# Altium integrated library Renesas Logic.IntLib: 1013 symbols (part 14 of 27)
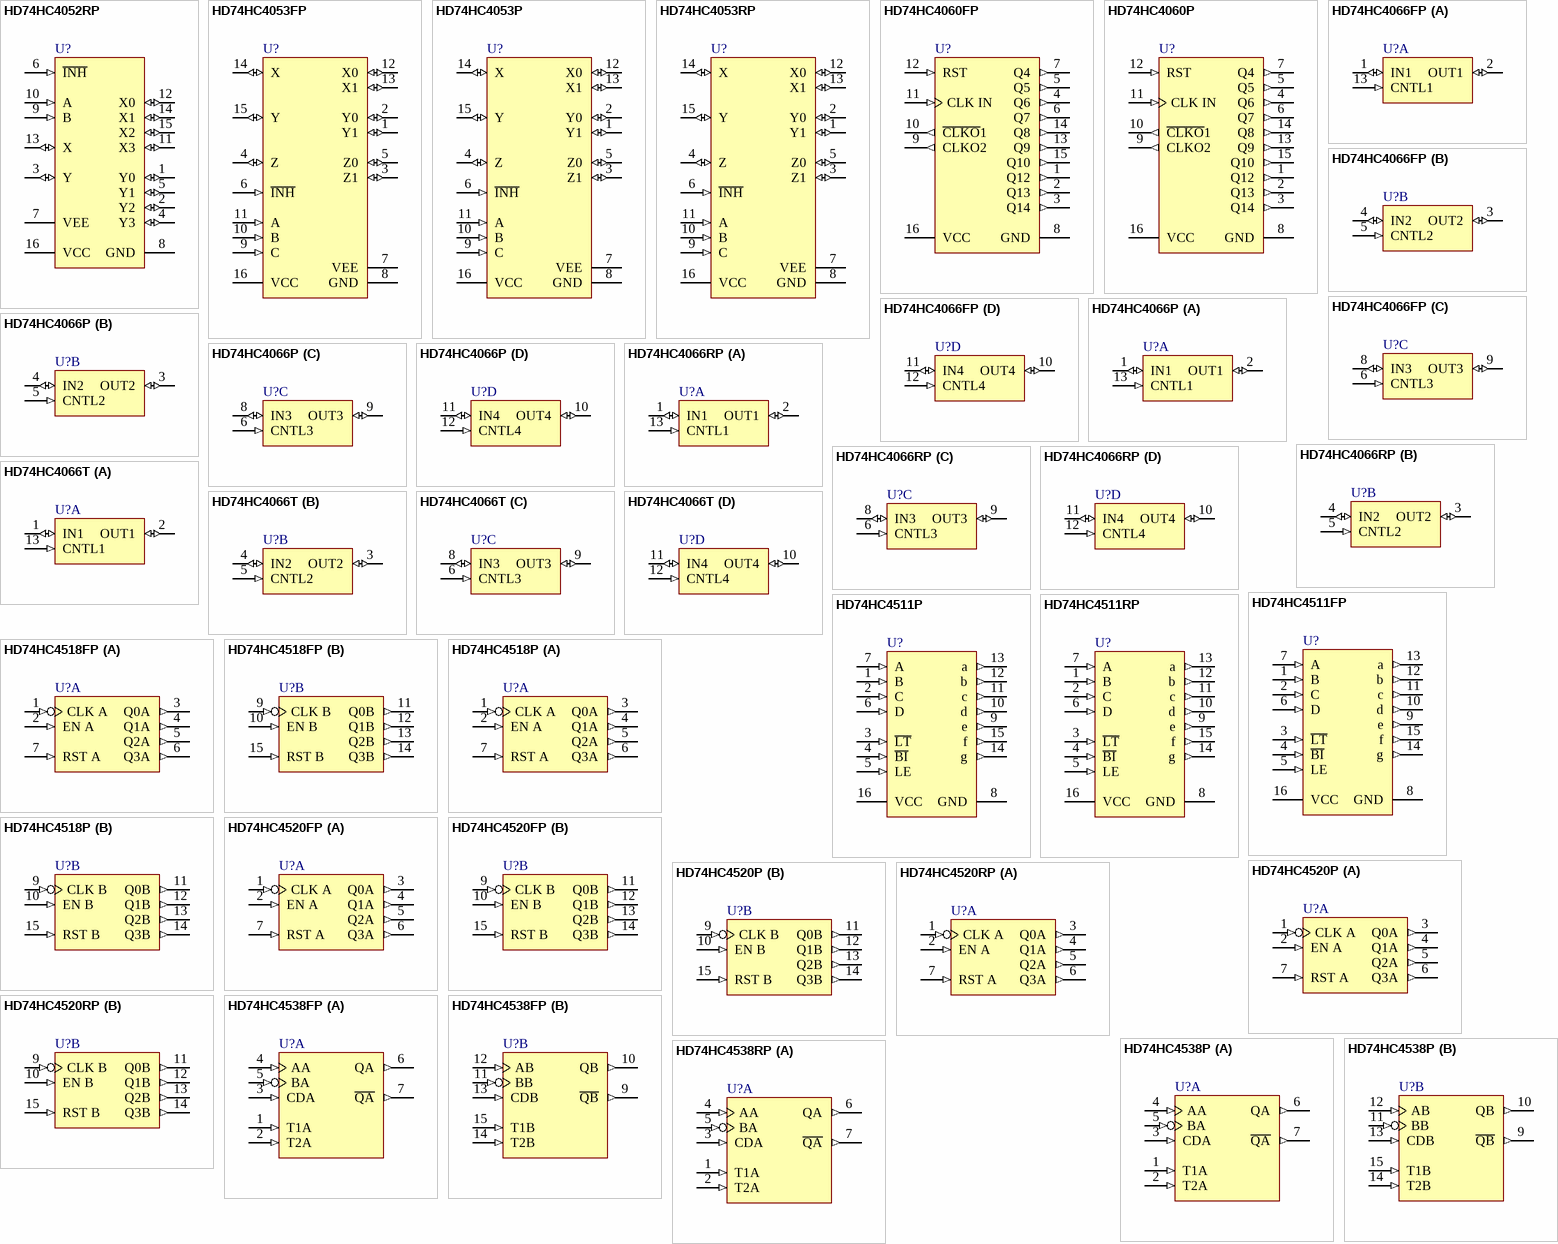
[diagram p66: symbols HD74HC4052RP to HD74HC4538RP]

## HD74HC4518P
designator U?
Dual BCD Up Counters; Published: 10-Feb-2010; DatasheetVersion: Rev.2.00, Mar-2006; PackageVersion: Sep-2005; PackageReference: PRDP0016AE-B; Publisher: Altium Limited; PackageDescription: DIP, Plastic, 16-Pin, Row Spacing 7.62 mm, Pitch 2.54 mm; Code_JEITA: P-DIP16-6.3x19.2-2.54; ComponentLink1Description: Manufacturer Link; ComponentLink1URL: http://sg.renesas.com/fmwk.jsp?cnt=hd74hc_root.jsp&fp=/products/standard_ic/general_purpose_logic/5v_standard_logic/hd74hc/; ComponentLink2Description: Datasheet; ComponentLink2URL: http://documentation.renesas.com/eng/products/logic/rej03d0653_hd74hc4518_4520ds.pdf; ComponentLink3Description: Packaging Specification; ComponentLink3URL: http://sg.renesas.com/media/products/common_info/package/pdf/ic/code/prdp0016ae_b.pdf
footprint PRDP0016AE-B (DIP, 16-Leads, Row Spacing 7.62mm, Pitch 2.54mm, Body 19.2x6.3mm)
pins on every part: 8 GND (power) hidden to GND, 16 VCC (power) hidden to VDD
part A pins: 1 CLK A (in), 2 EN A (in), 3 Q0A (out), 4 Q1A (out), 5 Q2A (out), 6 Q3A (out), 7 RST A (in)
part B pins: 9 CLK B (in), 10 EN B (in), 11 Q0B (out), 12 Q1B (out), 13 Q2B (out), 14 Q3B (out), 15 RST B (in)

## HD74HC4520FP
designator U?
Dual Binary Up Counters; Published: 10-Feb-2010; DatasheetVersion: Rev.2.00, Mar-2006; PackageVersion: Sep-2005; PackageReference: PRSP0016DH-B; Publisher: Altium Limited; PackageDescription: 16-Pin Plastic Small Outline Package 1.27 mm Pitch; Code_JEITA: P-SOP16-5.5x10.06-1.27; ComponentLink1Description: Manufacturer Link; ComponentLink1URL: http://sg.renesas.com/fmwk.jsp?cnt=hd74hc_root.jsp&fp=/products/standard_ic/general_purpose_logic/5v_standard_logic/hd74hc/; ComponentLink2Description: Datasheet; ComponentLink2URL: http://documentation.renesas.com/eng/products/logic/rej03d0653_hd74hc4518_4520ds.pdf; ComponentLink3Description: Packaging Specification; ComponentLink3URL: http://sg.renesas.com/media/products/common_info/package/pdf/ic/code/prsp0016dh_b.pdf
footprint PRSP0016DH-B_N (SOP, 16-Leads, Body 10.06x5.5mm, Pitch 1.27mm, IPC Medium Density)
footprint PRSP0016DH-B_L (SOP, 16-Leads, Body 10.06x5.5mm, Pitch 1.27mm, IPC High Density)
footprint PRSP0016DH-B_M (SOP, 16-Leads, Body 10.06x5.5mm, Pitch 1.27mm, IPC Low Density)
pins on every part: 8 GND (power) hidden to GND, 16 VCC (power) hidden to VDD
part A pins: 1 CLK A (in), 2 EN A (in), 3 Q0A (out), 4 Q1A (out), 5 Q2A (out), 6 Q3A (out), 7 RST A (in)
part B pins: 9 CLK B (in), 10 EN B (in), 11 Q0B (out), 12 Q1B (out), 13 Q2B (out), 14 Q3B (out), 15 RST B (in)

## HD74HC4520P
designator U?
Dual Binary Up Counters; Published: 10-Feb-2010; DatasheetVersion: Rev.2.00, Mar-2006; PackageVersion: Sep-2005; PackageReference: PRDP0016AE-B; Publisher: Altium Limited; PackageDescription: DIP, Plastic, 16-Pin, Row Spacing 7.62 mm, Pitch 2.54 mm; Code_JEITA: P-DIP16-6.3x19.2-2.54; ComponentLink1Description: Manufacturer Link; ComponentLink1URL: http://sg.renesas.com/fmwk.jsp?cnt=hd74hc_root.jsp&fp=/products/standard_ic/general_purpose_logic/5v_standard_logic/hd74hc/; ComponentLink2Description: Datasheet; ComponentLink2URL: http://documentation.renesas.com/eng/products/logic/rej03d0653_hd74hc4518_4520ds.pdf; ComponentLink3Description: Packaging Specification; ComponentLink3URL: http://sg.renesas.com/media/products/common_info/package/pdf/ic/code/prdp0016ae_b.pdf
footprint PRDP0016AE-B (DIP, 16-Leads, Row Spacing 7.62mm, Pitch 2.54mm, Body 19.2x6.3mm)
pins on every part: 8 GND (power) hidden to GND, 16 VCC (power) hidden to VDD
part A pins: 1 CLK A (in), 2 EN A (in), 3 Q0A (out), 4 Q1A (out), 5 Q2A (out), 6 Q3A (out), 7 RST A (in)
part B pins: 9 CLK B (in), 10 EN B (in), 11 Q0B (out), 12 Q1B (out), 13 Q2B (out), 14 Q3B (out), 15 RST B (in)

## HD74HC4520RP
designator U?
Dual Binary Up Counters; Published: 10-Feb-2010; DatasheetVersion: Rev.2.00, Mar-2006; PackageVersion: Sep-2005; PackageReference: PRSP0016DG-A; Publisher: Altium Limited; PackageDescription: 16-Pin Plastic Small Outline Integrated Circuit, 9.9 x 3.95 mm Body, 1.27 mm Pitch; Code_JEITA: P-SOP16-3.95x9.9-1.27; Code_IPC: SOIC127P600-16; ComponentLink1Description: Manufacturer Link; ComponentLink1URL: http://sg.renesas.com/fmwk.jsp?cnt=hd74hc_root.jsp&fp=/products/standard_ic/general_purpose_logic/5v_standard_logic/hd74hc/; ComponentLink2Description: Datasheet; ComponentLink2URL: http://documentation.renesas.com/eng/products/logic/rej03d0653_hd74hc4518_4520ds.pdf; ComponentLink3Description: Packaging Specification; ComponentLink3URL: http://sg.renesas.com/media/products/common_info/package/pdf/ic/code/prsp0016dg_a.pdf
footprint PRSP0016DG-A_N (SOIC, 16-Leads, Body 9.9x3.95mm, Pitch 1.27mm, IPC Medium Density)
footprint PRSP0016DG-A_L (SOIC, 16-Leads, Body 9.9x3.95mm, Pitch 1.27mm, IPC High Density)
footprint PRSP0016DG-A_M (SOIC, 16-Leads, Body 9.9x3.95mm, Pitch 1.27mm, IPC Low Density)
pins on every part: 8 GND (power) hidden to GND, 16 VCC (power) hidden to VDD
part A pins: 1 CLK A (in), 2 EN A (in), 3 Q0A (out), 4 Q1A (out), 5 Q2A (out), 6 Q3A (out), 7 RST A (in)
part B pins: 9 CLK B (in), 10 EN B (in), 11 Q0B (out), 12 Q1B (out), 13 Q2B (out), 14 Q3B (out), 15 RST B (in)

## HD74HC4538FP
designator U?
Dual Precision Retriggerable / Resetable Monostable Multivibrators; Published: 10-Feb-2010; DatasheetVersion: Rev.2.00, Mar-2006; PackageVersion: Sep-2005; PackageReference: PRSP0016DH-B; Publisher: Altium Limited; PackageDescription: 16-Pin Plastic Small Outline Package 1.27 mm Pitch; Code_JEITA: P-SOP16-5.5x10.06-1.27; ComponentLink1Description: Manufacturer Link; ComponentLink1URL: http://sg.renesas.com/fmwk.jsp?cnt=hd74hc_root.jsp&fp=/products/standard_ic/general_purpose_logic/5v_standard_logic/hd74hc/; ComponentLink2Description: Datasheet; ComponentLink2URL: http://documentation.renesas.com/eng/products/logic/rej03d0654_hd74hc4538ds.pdf; ComponentLink3Description: Packaging Specification; ComponentLink3URL: http://sg.renesas.com/media/products/common_info/package/pdf/ic/code/prsp0016dh_b.pdf
footprint PRSP0016DH-B_N (SOP, 16-Leads, Body 10.06x5.5mm, Pitch 1.27mm, IPC Medium Density)
footprint PRSP0016DH-B_L (SOP, 16-Leads, Body 10.06x5.5mm, Pitch 1.27mm, IPC High Density)
footprint PRSP0016DH-B_M (SOP, 16-Leads, Body 10.06x5.5mm, Pitch 1.27mm, IPC Low Density)
pins on every part: 8 GND (power) hidden, 16 VCC (power) hidden
part A pins: 1 T1A (in), 2 T2A (in), 3 CDA (in), 4 AA (in), 5 BA (in), 6 QA (out), 7 ~{QA} (out)
part B pins: 9 ~{QB} (out), 10 QB (out), 11 BB (in), 12 AB (in), 13 CDB (in), 14 T2B (in), 15 T1B (in)

## HD74HC4538P
designator U?
Dual Precision Retriggerable / Resetable Monostable Multivibrators; Published: 10-Feb-2010; DatasheetVersion: Rev.2.00, Mar-2006; PackageVersion: Sep-2005; PackageReference: PRDP0016AE-B; Publisher: Altium Limited; PackageDescription: DIP, Plastic, 16-Pin, Row Spacing 7.62 mm, Pitch 2.54 mm; Code_JEITA: P-DIP16-6.3x19.2-2.54; ComponentLink1Description: Manufacturer Link; ComponentLink1URL: http://sg.renesas.com/fmwk.jsp?cnt=hd74hc_root.jsp&fp=/products/standard_ic/general_purpose_logic/5v_standard_logic/hd74hc/; ComponentLink2Description: Datasheet; ComponentLink2URL: http://documentation.renesas.com/eng/products/logic/rej03d0654_hd74hc4538ds.pdf; ComponentLink3Description: Packaging Specification; ComponentLink3URL: http://sg.renesas.com/media/products/common_info/package/pdf/ic/code/prdp0016ae_b.pdf
footprint PRDP0016AE-B (DIP, 16-Leads, Row Spacing 7.62mm, Pitch 2.54mm, Body 19.2x6.3mm)
pins on every part: 8 GND (power) hidden, 16 VCC (power) hidden
part A pins: 1 T1A (in), 2 T2A (in), 3 CDA (in), 4 AA (in), 5 BA (in), 6 QA (out), 7 ~{QA} (out)
part B pins: 9 ~{QB} (out), 10 QB (out), 11 BB (in), 12 AB (in), 13 CDB (in), 14 T2B (in), 15 T1B (in)

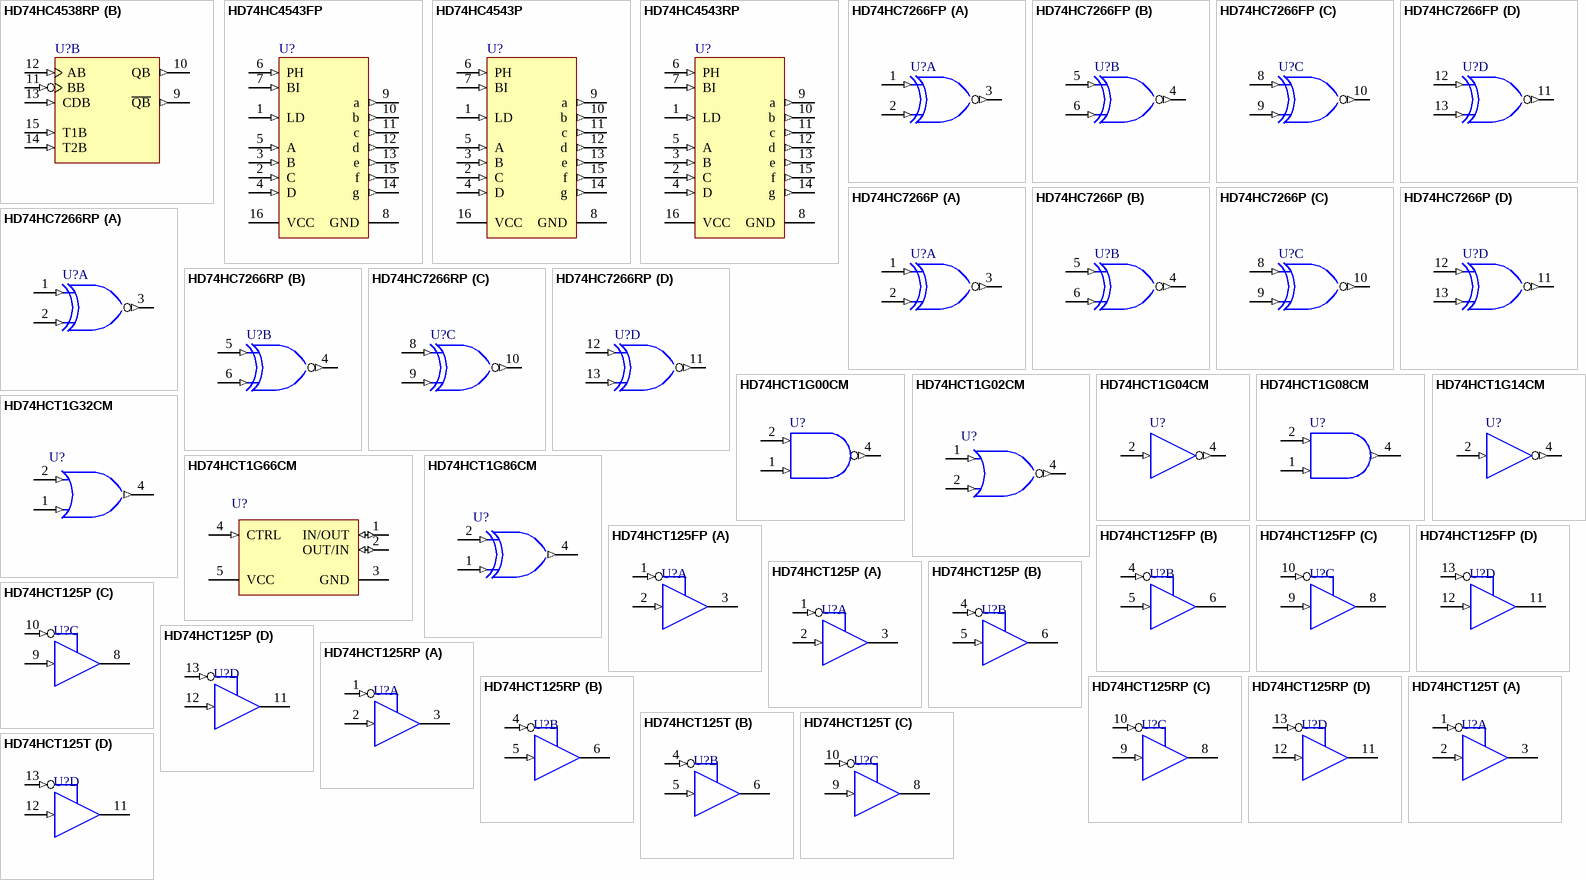
[diagram p25: symbols HD74HC4538RP to HD74HCT125T]

## HD74HC4538RP
designator U?
Dual Precision Retriggerable / Resetable Monostable Multivibrators; Published: 10-Feb-2010; DatasheetVersion: Rev.2.00, Mar-2006; PackageVersion: Sep-2005; PackageReference: PRSP0016DG-A; Publisher: Altium Limited; PackageDescription: 16-Pin Plastic Small Outline Integrated Circuit, 9.9 x 3.95 mm Body, 1.27 mm Pitch; Code_JEITA: P-SOP16-3.95x9.9-1.27; Code_IPC: SOIC127P600-16; ComponentLink1Description: Manufacturer Link; ComponentLink1URL: http://sg.renesas.com/fmwk.jsp?cnt=hd74hc_root.jsp&fp=/products/standard_ic/general_purpose_logic/5v_standard_logic/hd74hc/; ComponentLink2Description: Datasheet; ComponentLink2URL: http://documentation.renesas.com/eng/products/logic/rej03d0654_hd74hc4538ds.pdf; ComponentLink3Description: Packaging Specification; ComponentLink3URL: http://sg.renesas.com/media/products/common_info/package/pdf/ic/code/prsp0016dg_a.pdf
footprint PRSP0016DG-A_N (SOIC, 16-Leads, Body 9.9x3.95mm, Pitch 1.27mm, IPC Medium Density)
footprint PRSP0016DG-A_L (SOIC, 16-Leads, Body 9.9x3.95mm, Pitch 1.27mm, IPC High Density)
footprint PRSP0016DG-A_M (SOIC, 16-Leads, Body 9.9x3.95mm, Pitch 1.27mm, IPC Low Density)
pins on every part: 8 GND (power) hidden, 16 VCC (power) hidden
part A pins: 1 T1A (in), 2 T2A (in), 3 CDA (in), 4 AA (in), 5 BA (in), 6 QA (out), 7 ~{QA} (out)
part B pins: 9 ~{QB} (out), 10 QB (out), 11 BB (in), 12 AB (in), 13 CDB (in), 14 T2B (in), 15 T1B (in)

## HD74HC4543FP
designator U?
BCD-to-Seven Segment Latch / Decode / Driver; Published: 10-Feb-2010; DatasheetVersion: Rev.2.00, Mar-2006; PackageVersion: Sep-2005; PackageReference: PRSP0016DH-B; Publisher: Altium Limited; PackageDescription: 16-Pin Plastic Small Outline Package 1.27 mm Pitch; Code_JEITA: P-SOP16-5.5x10.06-1.27; ComponentLink1Description: Manufacturer Link; ComponentLink1URL: http://sg.renesas.com/fmwk.jsp?cnt=hd74hc_root.jsp&fp=/products/standard_ic/general_purpose_logic/5v_standard_logic/hd74hc/; ComponentLink2Description: Datasheet; ComponentLink2URL: http://documentation.renesas.com/eng/products/logic/rej03d0655_hd74hc4543ds.pdf; ComponentLink3Description: Packaging Specification; ComponentLink3URL: http://sg.renesas.com/media/products/common_info/package/pdf/ic/code/prsp0016dh_b.pdf
footprint PRSP0016DH-B_N (SOP, 16-Leads, Body 10.06x5.5mm, Pitch 1.27mm, IPC Medium Density)
footprint PRSP0016DH-B_L (SOP, 16-Leads, Body 10.06x5.5mm, Pitch 1.27mm, IPC High Density)
footprint PRSP0016DH-B_M (SOP, 16-Leads, Body 10.06x5.5mm, Pitch 1.27mm, IPC Low Density)
pins: 1 LD (in), 2 C (in), 3 B (in), 4 D (in), 5 A (in), 6 PH (in), 7 BI (in), 8 GND (power), 9 a (out), 10 b (out), 11 c (out), 12 d (out), 13 e (out), 14 g (out), 15 f (out), 16 VCC (power)

## HD74HC4543P
designator U?
BCD-to-Seven Segment Latch / Decode / Driver; Published: 10-Feb-2010; DatasheetVersion: Rev.2.00, Mar-2006; PackageVersion: Sep-2005; PackageReference: PRDP0016AE-B; Publisher: Altium Limited; PackageDescription: DIP, Plastic, 16-Pin, Row Spacing 7.62 mm, Pitch 2.54 mm; Code_JEITA: P-DIP16-6.3x19.2-2.54; ComponentLink1Description: Manufacturer Link; ComponentLink1URL: http://sg.renesas.com/fmwk.jsp?cnt=hd74hc_root.jsp&fp=/products/standard_ic/general_purpose_logic/5v_standard_logic/hd74hc/; ComponentLink2Description: Datasheet; ComponentLink2URL: http://documentation.renesas.com/eng/products/logic/rej03d0655_hd74hc4543ds.pdf; ComponentLink3Description: Packaging Specification; ComponentLink3URL: http://sg.renesas.com/media/products/common_info/package/pdf/ic/code/prdp0016ae_b.pdf
footprint PRDP0016AE-B (DIP, 16-Leads, Row Spacing 7.62mm, Pitch 2.54mm, Body 19.2x6.3mm)
pins: 1 LD (in), 2 C (in), 3 B (in), 4 D (in), 5 A (in), 6 PH (in), 7 BI (in), 8 GND (power), 9 a (out), 10 b (out), 11 c (out), 12 d (out), 13 e (out), 14 g (out), 15 f (out), 16 VCC (power)

## HD74HC4543RP
designator U?
BCD-to-Seven Segment Latch / Decode / Driver; Published: 10-Feb-2010; DatasheetVersion: Rev.2.00, Mar-2006; PackageVersion: Sep-2005; PackageReference: PRSP0016DG-A; Publisher: Altium Limited; PackageDescription: 16-Pin Plastic Small Outline Integrated Circuit, 9.9 x 3.95 mm Body, 1.27 mm Pitch; Code_JEITA: P-SOP16-3.95x9.9-1.27; Code_IPC: SOIC127P600-16; ComponentLink1Description: Manufacturer Link; ComponentLink1URL: http://sg.renesas.com/fmwk.jsp?cnt=hd74hc_root.jsp&fp=/products/standard_ic/general_purpose_logic/5v_standard_logic/hd74hc/; ComponentLink2Description: Datasheet; ComponentLink2URL: http://documentation.renesas.com/eng/products/logic/rej03d0655_hd74hc4543ds.pdf; ComponentLink3Description: Packaging Specification; ComponentLink3URL: http://sg.renesas.com/media/products/common_info/package/pdf/ic/code/prsp0016dg_a.pdf
footprint PRSP0016DG-A_N (SOIC, 16-Leads, Body 9.9x3.95mm, Pitch 1.27mm, IPC Medium Density)
footprint PRSP0016DG-A_L (SOIC, 16-Leads, Body 9.9x3.95mm, Pitch 1.27mm, IPC High Density)
footprint PRSP0016DG-A_M (SOIC, 16-Leads, Body 9.9x3.95mm, Pitch 1.27mm, IPC Low Density)
pins: 1 LD (in), 2 C (in), 3 B (in), 4 D (in), 5 A (in), 6 PH (in), 7 BI (in), 8 GND (power), 9 a (out), 10 b (out), 11 c (out), 12 d (out), 13 e (out), 14 g (out), 15 f (out), 16 VCC (power)

## HD74HC7266FP
designator U?
Quad 2-Input Exclusive-NOR Gates; Published: 10-Feb-2010; DatasheetVersion: Rev.2.00, Jan-2006; PackageVersion: Sep-2005; PackageReference: PRSP0014DF-B; Publisher: Altium Limited; PackageDescription: 14-Pin Plastic Small Outline Package, 10.06 x 5.5 mm Body, 1.27 mm Pitch; Code_JEITA: P-SOP14-5.5x10.06-1.27; ComponentLink1Description: Manufacturer Link; ComponentLink1URL: http://sg.renesas.com/fmwk.jsp?cnt=hd74hc_root.jsp&fp=/products/standard_ic/general_purpose_logic/5v_standard_logic/hd74hc/; ComponentLink2Description: Datasheet; ComponentLink2URL: http://documentation.renesas.com/eng/products/logic/rej03d0656_hd74hc7266ds.pdf; ComponentLink3Description: Packaging Specification; ComponentLink3URL: http://sg.renesas.com/media/products/common_info/package/pdf/ic/code/prsp0014df_b.pdf
footprint PRSP0014DF-B_N (SOP, 14-Leads, Body 10.06x5.5mm, Pitch 1.27mm, IPC Medium Density)
footprint PRSP0014DF-B_L (SOP, 14-Leads, Body 10.06x5.5mm, Pitch 1.27mm, IPC High Density)
footprint PRSP0014DF-B_M (SOP, 14-Leads, Body 10.06x5.5mm, Pitch 1.27mm, IPC Low Density)
pins on every part: 7 GND (power) hidden, 14 VCC (power) hidden
part A pins: 1 1A (in), 2 1B (in), 3 1Y (out)
part B pins: 4 2Y (out), 5 2A (in), 6 2B (in)
part C pins: 8 3A (in), 9 3B (in), 10 3Y (out)
part D pins: 11 4Y (out), 12 4A (in), 13 4B (in)

## HD74HC7266P
designator U?
Quad 2-Input Exclusive-NOR Gates; Published: 10-Feb-2010; DatasheetVersion: Rev.2.00, Jan-2006; PackageVersion: Sep-2005; PackageReference: PRDP0014AB-B; Publisher: Altium Limited; PackageDescription: 14-Pin Plastic DIP, 19.2 x 6.3 mm Body, 7.62 mm Row Spacing, Pitch 2.54 mm; Code_JEITA: P-DIP14-6.3x19.2-2.54; ComponentLink1Description: Manufacturer Link; ComponentLink1URL: http://sg.renesas.com/fmwk.jsp?cnt=hd74hc_root.jsp&fp=/products/standard_ic/general_purpose_logic/5v_standard_logic/hd74hc/; ComponentLink2Description: Datasheet; ComponentLink2URL: http://documentation.renesas.com/eng/products/logic/rej03d0656_hd74hc7266ds.pdf; ComponentLink3Description: Packaging Specification; ComponentLink3URL: http://sg.renesas.com/media/products/common_info/package/pdf/ic/code/prdp0014ab_b.pdf
footprint PRDP0014AB-B (DIP, 14-Leads, Row Spacing 7.62mm, Pitch 2.54mm, Body 19.2x6.3mm)
pins on every part: 7 GND (power) hidden, 14 VCC (power) hidden
part A pins: 1 1A (in), 2 1B (in), 3 1Y (out)
part B pins: 4 2Y (out), 5 2A (in), 6 2B (in)
part C pins: 8 3A (in), 9 3B (in), 10 3Y (out)
part D pins: 11 4Y (out), 12 4A (in), 13 4B (in)

## HD74HC7266RP
designator U?
Quad 2-Input Exclusive-NOR Gates; Published: 10-Feb-2010; DatasheetVersion: Rev.2.00, Jan-2006; PackageVersion: Sep-2005; PackageReference: PRSP0014DE-A; Publisher: Altium Limited; PackageDescription: 14-Pin Plastic Small Outline Integrated Circuit 8.65 x 3.95 mm Body, 1.27 mm Pitch; Code_JEITA: P-SOP14-3.95x8.65-1.27; ComponentLink1Description: Manufacturer Link; ComponentLink1URL: http://sg.renesas.com/fmwk.jsp?cnt=hd74hc_root.jsp&fp=/products/standard_ic/general_purpose_logic/5v_standard_logic/hd74hc/; ComponentLink2Description: Datasheet; ComponentLink2URL: http://documentation.renesas.com/eng/products/logic/rej03d0656_hd74hc7266ds.pdf; ComponentLink3Description: Packaging Specification; ComponentLink3URL: http://sg.renesas.com/media/products/common_info/package/pdf/ic/code/prsp0014de_a.pdf
footprint PRSP0014DE-A_N (SOIC, 14-Leads, Body 8.65x3.95mm, Pitch 1.27mm, IPC Medium Density)
footprint PRSP0014DE-A_L (SOIC, 14-Leads, Body 8.65x3.95mm, Pitch 1.27mm, IPC High Density)
footprint PRSP0014DE-A_M (SOIC, 14-Leads, Body 8.65x3.95mm, Pitch 1.27mm, IPC Low Density)
pins on every part: 7 GND (power) hidden, 14 VCC (power) hidden
part A pins: 1 1A (in), 2 1B (in), 3 1Y (out)
part B pins: 4 2Y (out), 5 2A (in), 6 2B (in)
part C pins: 8 3A (in), 9 3B (in), 10 3Y (out)
part D pins: 11 4Y (out), 12 4A (in), 13 4B (in)

## HD74HCT1G00CM
designator U?
2-Input NAND Gate; Published: 10-Feb-2010; DatasheetVersion: Rev.5.00, Jan-2004; PackageVersion: Jan-2005; PackageReference: PTSP0005ZC-A; Publisher: Altium Limited; PackageDescription: 5-Pin Plastic SOT-353 Package 0.65 mm Pitch, 2.1 mm Lead Span; Code_JEITA: SC-88A; Code_IPC: SOT353-5; ComponentLink1Description: Manufacturer Link; ComponentLink1URL: http://sg.renesas.com/fmwk.jsp?cnt=unilogic_hc_root.jsp&fp=/products/standard_ic/general_purpose_logic/uni_logic/unilogic_hc/; ComponentLink2Description: Datasheet; ComponentLink2URL: http://documentation.renesas.com/eng/products/logic/rej03d0191_hd74hct1g00.pdf; ComponentLink3Description: Packaging Specification; ComponentLink3URL: http://sg.renesas.com/media/products/common_info/package/pdf/ic/code/ptsp0005zc_a.pdf
footprint PTSP0005ZC-A_N (SOT353, 5-Leads, Body 2x1.3mm, Pitch 0.65mm, Lead Span 2.1mm, IPC Medium Density)
footprint PTSP0005ZC-A_L (SOT353, 5-Leads, Body 2x1.3mm, Pitch 0.65mm, Lead Span 2.1mm, IPC High Density)
footprint PTSP0005ZC-A_M (SOT353, 5-Leads, Body 2x1.3mm, Pitch 0.65mm, Lead Span 2.1mm, IPC Low Density)
pins: 1 IN B (in), 2 IN A (in), 3 GND (power) hidden, 4 OUT Y (out), 5 VCC (power) hidden

## HD74HCT1G02CM
designator U?
2-Input NOR Gate; Published: 10-Feb-2010; DatasheetVersion: Rev.5.00, Jan-2004; PackageVersion: Jan-2005; PackageReference: PTSP0005ZC-A; Publisher: Altium Limited; PackageDescription: 5-Pin Plastic SOT-353 Package 0.65 mm Pitch, 2.1 mm Lead Span; Code_JEITA: SC-88A; Code_IPC: SOT353-5; ComponentLink1Description: Manufacturer Link; ComponentLink1URL: http://sg.renesas.com/fmwk.jsp?cnt=unilogic_hc_root.jsp&fp=/products/standard_ic/general_purpose_logic/uni_logic/unilogic_hc/; ComponentLink2Description: Datasheet; ComponentLink2URL: http://documentation.renesas.com/eng/products/logic/rej03d0192_hd74hct1g02.pdf; ComponentLink3Description: Packaging Specification; ComponentLink3URL: http://sg.renesas.com/media/products/common_info/package/pdf/ic/code/ptsp0005zc_a.pdf
footprint PTSP0005ZC-A_N (SOT353, 5-Leads, Body 2x1.3mm, Pitch 0.65mm, Lead Span 2.1mm, IPC Medium Density)
footprint PTSP0005ZC-A_L (SOT353, 5-Leads, Body 2x1.3mm, Pitch 0.65mm, Lead Span 2.1mm, IPC High Density)
footprint PTSP0005ZC-A_M (SOT353, 5-Leads, Body 2x1.3mm, Pitch 0.65mm, Lead Span 2.1mm, IPC Low Density)
pins: 1 IN B (in), 2 IN A (in), 3 GND (power) hidden, 4 OUT Y (out), 5 VCC (power) hidden

## HD74HCT1G04CM
designator U?
Inverter; Published: 10-Feb-2010; DatasheetVersion: Rev.5.00, Jan-2004; PackageVersion: Jan-2005; PackageReference: PTSP0005ZC-A; Publisher: Altium Limited; PackageDescription: 5-Pin Plastic SOT-353 Package 0.65 mm Pitch, 2.1 mm Lead Span; Code_JEITA: SC-88A; Code_IPC: SOT353-5; ComponentLink1Description: Manufacturer Link; ComponentLink1URL: http://sg.renesas.com/fmwk.jsp?cnt=unilogic_hc_root.jsp&fp=/products/standard_ic/general_purpose_logic/uni_logic/unilogic_hc/; ComponentLink2Description: Datasheet; ComponentLink2URL: http://documentation.renesas.com/eng/products/logic/rej03d0193_hd74hct1g04.pdf; ComponentLink3Description: Packaging Specification; ComponentLink3URL: http://sg.renesas.com/media/products/common_info/package/pdf/ic/code/ptsp0005zc_a.pdf
footprint PTSP0005ZC-A_N (SOT353, 5-Leads, Body 2x1.3mm, Pitch 0.65mm, Lead Span 2.1mm, IPC Medium Density)
footprint PTSP0005ZC-A_L (SOT353, 5-Leads, Body 2x1.3mm, Pitch 0.65mm, Lead Span 2.1mm, IPC High Density)
footprint PTSP0005ZC-A_M (SOT353, 5-Leads, Body 2x1.3mm, Pitch 0.65mm, Lead Span 2.1mm, IPC Low Density)
pins: 1 NC hidden, 2 IN A (in), 3 GND (power) hidden, 4 OUT ~{Y} (out), 5 VCC (power) hidden

## HD74HCT1G08CM
designator U?
2-Input AND Gate; Published: 10-Feb-2010; DatasheetVersion: Rev.5.00, Jan-2004; PackageVersion: Jan-2005; PackageReference: PTSP0005ZC-A; Publisher: Altium Limited; PackageDescription: 5-Pin Plastic SOT-353 Package 0.65 mm Pitch, 2.1 mm Lead Span; Code_JEITA: SC-88A; Code_IPC: SOT353-5; ComponentLink1Description: Manufacturer Link; ComponentLink1URL: http://sg.renesas.com/fmwk.jsp?cnt=unilogic_hc_root.jsp&fp=/products/standard_ic/general_purpose_logic/uni_logic/unilogic_hc/; ComponentLink2Description: Datasheet; ComponentLink2URL: http://documentation.renesas.com/eng/products/logic/rej03d0194_hd74hct1g08.pdf; ComponentLink3Description: Packaging Specification; ComponentLink3URL: http://sg.renesas.com/media/products/common_info/package/pdf/ic/code/ptsp0005zc_a.pdf
footprint PTSP0005ZC-A_N (SOT353, 5-Leads, Body 2x1.3mm, Pitch 0.65mm, Lead Span 2.1mm, IPC Medium Density)
footprint PTSP0005ZC-A_L (SOT353, 5-Leads, Body 2x1.3mm, Pitch 0.65mm, Lead Span 2.1mm, IPC High Density)
footprint PTSP0005ZC-A_M (SOT353, 5-Leads, Body 2x1.3mm, Pitch 0.65mm, Lead Span 2.1mm, IPC Low Density)
pins: 1 IN B (in), 2 IN A (in), 3 GND (power) hidden, 4 OUT Y (out), 5 VCC (power) hidden

## HD74HCT1G14CM
designator U?
Schmitt Trigger Inverter; Published: 10-Feb-2010; DatasheetVersion: Rev.5.00, Jan-2004; PackageVersion: Jan-2005; PackageReference: PTSP0005ZC-A; Publisher: Altium Limited; PackageDescription: 5-Pin Plastic SOT-353 Package 0.65 mm Pitch, 2.1 mm Lead Span; Code_JEITA: SC-88A; Code_IPC: SOT353-5; ComponentLink1Description: Manufacturer Link; ComponentLink1URL: http://sg.renesas.com/fmwk.jsp?cnt=unilogic_hc_root.jsp&fp=/products/standard_ic/general_purpose_logic/uni_logic/unilogic_hc/; ComponentLink2Description: Datasheet; ComponentLink2URL: http://documentation.renesas.com/eng/products/logic/rej03d0195_hd74hct1g14.pdf; ComponentLink3Description: Packaging Specification; ComponentLink3URL: http://sg.renesas.com/media/products/common_info/package/pdf/ic/code/ptsp0005zc_a.pdf
footprint PTSP0005ZC-A_N (SOT353, 5-Leads, Body 2x1.3mm, Pitch 0.65mm, Lead Span 2.1mm, IPC Medium Density)
footprint PTSP0005ZC-A_L (SOT353, 5-Leads, Body 2x1.3mm, Pitch 0.65mm, Lead Span 2.1mm, IPC High Density)
footprint PTSP0005ZC-A_M (SOT353, 5-Leads, Body 2x1.3mm, Pitch 0.65mm, Lead Span 2.1mm, IPC Low Density)
pins: 1 NC hidden, 2 IN A (in), 3 GND (power) hidden, 4 OUT ~{Y} (out), 5 VCC (power) hidden

## HD74HCT1G32CM
designator U?
2-Input OR Gate; Published: 10-Feb-2010; DatasheetVersion: Rev.5.00, Jan-2004; PackageVersion: Jan-2005; PackageReference: PTSP0005ZC-A; Publisher: Altium Limited; PackageDescription: 5-Pin Plastic SOT-353 Package 0.65 mm Pitch, 2.1 mm Lead Span; Code_JEITA: SC-88A; Code_IPC: SOT353-5; ComponentLink1Description: Manufacturer Link; ComponentLink1URL: http://sg.renesas.com/fmwk.jsp?cnt=unilogic_hc_root.jsp&fp=/products/standard_ic/general_purpose_logic/uni_logic/unilogic_hc/; ComponentLink2Description: Datasheet; ComponentLink2URL: http://documentation.renesas.com/eng/products/logic/rej03d0196_hd74hct1g32.pdf; ComponentLink3Description: Packaging Specification; ComponentLink3URL: http://sg.renesas.com/media/products/common_info/package/pdf/ic/code/ptsp0005zc_a.pdf
footprint PTSP0005ZC-A_N (SOT353, 5-Leads, Body 2x1.3mm, Pitch 0.65mm, Lead Span 2.1mm, IPC Medium Density)
footprint PTSP0005ZC-A_L (SOT353, 5-Leads, Body 2x1.3mm, Pitch 0.65mm, Lead Span 2.1mm, IPC High Density)
footprint PTSP0005ZC-A_M (SOT353, 5-Leads, Body 2x1.3mm, Pitch 0.65mm, Lead Span 2.1mm, IPC Low Density)
pins: 1 IN B (in), 2 IN A (in), 3 GND (power) hidden, 4 OUT Y (out), 5 VCC (power) hidden

## HD74HCT1G66CM
designator U?
Analog Switch; Published: 10-Feb-2010; DatasheetVersion: Rev.7.00, Jan-2004; PackageVersion: Jan-2005; PackageReference: PTSP0005ZC-A; Publisher: Altium Limited; PackageDescription: 5-Pin Plastic SOT-353 Package 0.65 mm Pitch, 2.1 mm Lead Span; Code_JEITA: SC-88A; Code_IPC: SOT353-5; ComponentLink1Description: Manufacturer Link; ComponentLink1URL: http://sg.renesas.com/fmwk.jsp?cnt=unilogic_hc_root.jsp&fp=/products/standard_ic/general_purpose_logic/uni_logic/unilogic_hc/; ComponentLink2Description: Datasheet; ComponentLink2URL: http://documentation.renesas.com/eng/products/logic/rej03d0197_hd74hct1g66.pdf; ComponentLink3Description: Packaging Specification; ComponentLink3URL: http://sg.renesas.com/media/products/common_info/package/pdf/ic/code/ptsp0005zc_a.pdf
footprint PTSP0005ZC-A_N (SOT353, 5-Leads, Body 2x1.3mm, Pitch 0.65mm, Lead Span 2.1mm, IPC Medium Density)
footprint PTSP0005ZC-A_L (SOT353, 5-Leads, Body 2x1.3mm, Pitch 0.65mm, Lead Span 2.1mm, IPC High Density)
footprint PTSP0005ZC-A_M (SOT353, 5-Leads, Body 2x1.3mm, Pitch 0.65mm, Lead Span 2.1mm, IPC Low Density)
pins: 1 IN/OUT (io), 2 OUT/IN (io), 3 GND (power), 4 CTRL (in), 5 VCC (power)

## HD74HCT1G86CM
designator U?
2-Input Exclusive-OR Gate; Published: 10-Feb-2010; DatasheetVersion: Rev.5.00, Jan-2004; PackageVersion: Jan-2005; PackageReference: PTSP0005ZC-A; Publisher: Altium Limited; PackageDescription: 5-Pin Plastic SOT-353 Package 0.65 mm Pitch, 2.1 mm Lead Span; Code_JEITA: SC-88A; Code_IPC: SOT353-5; ComponentLink1Description: Manufacturer Link; ComponentLink1URL: http://sg.renesas.com/fmwk.jsp?cnt=unilogic_hc_root.jsp&fp=/products/standard_ic/general_purpose_logic/uni_logic/unilogic_hc/; ComponentLink2Description: Datasheet; ComponentLink2URL: http://documentation.renesas.com/eng/products/logic/rej03d0198_hd74hct1g86.pdf; ComponentLink3Description: Packaging Specification; ComponentLink3URL: http://sg.renesas.com/media/products/common_info/package/pdf/ic/code/ptsp0005zc_a.pdf
footprint PTSP0005ZC-A_N (SOT353, 5-Leads, Body 2x1.3mm, Pitch 0.65mm, Lead Span 2.1mm, IPC Medium Density)
footprint PTSP0005ZC-A_L (SOT353, 5-Leads, Body 2x1.3mm, Pitch 0.65mm, Lead Span 2.1mm, IPC High Density)
footprint PTSP0005ZC-A_M (SOT353, 5-Leads, Body 2x1.3mm, Pitch 0.65mm, Lead Span 2.1mm, IPC Low Density)
pins: 1 IN B (in), 2 IN A (in), 3 GND (power) hidden, 4 OUT Y (out), 5 VCC (power) hidden

## HD74HCT125FP
designator U?
Quad Bus Buffer Gates with 3-State Outputs; Published: 10-Feb-2010; DatasheetVersion: Rev.3.00, May-2009; PackageVersion: Sep-2005; PackageReference: PRSP0014DF-B; Publisher: Altium Limited; PackageDescription: 14-Pin Plastic Small Outline Package, 10.06 x 5.5 mm Body, 1.27 mm Pitch; Code_JEITA: P-SOP14-5.5x10.06-1.27; ComponentLink1Description: Manufacturer Link; ComponentLink1URL: http://sg.renesas.com/fmwk.jsp?cnt=hd74hc_root.jsp&fp=/products/standard_ic/general_purpose_logic/5v_standard_logic/hd74hc/; ComponentLink2Description: Datasheet; ComponentLink2URL: http://documentation.renesas.com/eng/products/logic/rej03d0657_hd74hct125ds.pdf; ComponentLink3Description: Packaging Specification; ComponentLink3URL: http://sg.renesas.com/media/products/common_info/package/pdf/ic/code/prsp0014df_b.pdf
footprint PRSP0014DF-B_N (SOP, 14-Leads, Body 10.06x5.5mm, Pitch 1.27mm, IPC Medium Density)
footprint PRSP0014DF-B_L (SOP, 14-Leads, Body 10.06x5.5mm, Pitch 1.27mm, IPC High Density)
footprint PRSP0014DF-B_M (SOP, 14-Leads, Body 10.06x5.5mm, Pitch 1.27mm, IPC Low Density)
pins on every part: 7 GND (power) hidden, 14 VCC (power) hidden
part A pins: 1 1~{C} (in), 2 1A (in), 3 1Y (hiz)
part B pins: 4 2~{C} (in), 5 2A (in), 6 2Y (hiz)
part C pins: 8 3Y (hiz), 9 3A (in), 10 3~{C} (in)
part D pins: 11 4Y (hiz), 12 4A (in), 13 4~{C} (in)

## HD74HCT125P
designator U?
Quad Bus Buffer Gates with 3-State Outputs; Published: 10-Feb-2010; DatasheetVersion: Rev.3.00, May-2009; PackageVersion: Sep-2005; PackageReference: PRDP0014AB-B; Publisher: Altium Limited; PackageDescription: 14-Pin Plastic DIP, 19.2 x 6.3 mm Body, 7.62 mm Row Spacing, Pitch 2.54 mm; Code_JEITA: P-DIP14-6.3x19.2-2.54; ComponentLink1Description: Manufacturer Link; ComponentLink1URL: http://sg.renesas.com/fmwk.jsp?cnt=hd74hc_root.jsp&fp=/products/standard_ic/general_purpose_logic/5v_standard_logic/hd74hc/; ComponentLink2Description: Datasheet; ComponentLink2URL: http://documentation.renesas.com/eng/products/logic/rej03d0657_hd74hct125ds.pdf; ComponentLink3Description: Packaging Specification; ComponentLink3URL: http://sg.renesas.com/media/products/common_info/package/pdf/ic/code/prdp0014ab_b.pdf
footprint PRDP0014AB-B (DIP, 14-Leads, Row Spacing 7.62mm, Pitch 2.54mm, Body 19.2x6.3mm)
pins on every part: 7 GND (power) hidden, 14 VCC (power) hidden
part A pins: 1 1~{C} (in), 2 1A (in), 3 1Y (hiz)
part B pins: 4 2~{C} (in), 5 2A (in), 6 2Y (hiz)
part C pins: 8 3Y (hiz), 9 3A (in), 10 3~{C} (in)
part D pins: 11 4Y (hiz), 12 4A (in), 13 4~{C} (in)

## HD74HCT125RP
designator U?
Quad Bus Buffer Gates with 3-State Outputs; Published: 10-Feb-2010; DatasheetVersion: Rev.3.00, May-2009; PackageVersion: Sep-2005; PackageReference: PRSP0014DE-A; Publisher: Altium Limited; PackageDescription: 14-Pin Plastic Small Outline Integrated Circuit 8.65 x 3.95 mm Body, 1.27 mm Pitch; Code_JEITA: P-SOP14-3.95x8.65-1.27; ComponentLink1Description: Manufacturer Link; ComponentLink1URL: http://sg.renesas.com/fmwk.jsp?cnt=hd74hc_root.jsp&fp=/products/standard_ic/general_purpose_logic/5v_standard_logic/hd74hc/; ComponentLink2Description: Datasheet; ComponentLink2URL: http://documentation.renesas.com/eng/products/logic/rej03d0657_hd74hct125ds.pdf; ComponentLink3Description: Packaging Specification; ComponentLink3URL: http://sg.renesas.com/media/products/common_info/package/pdf/ic/code/prsp0014de_a.pdf
footprint PRSP0014DE-A_N (SOIC, 14-Leads, Body 8.65x3.95mm, Pitch 1.27mm, IPC Medium Density)
footprint PRSP0014DE-A_L (SOIC, 14-Leads, Body 8.65x3.95mm, Pitch 1.27mm, IPC High Density)
footprint PRSP0014DE-A_M (SOIC, 14-Leads, Body 8.65x3.95mm, Pitch 1.27mm, IPC Low Density)
pins on every part: 7 GND (power) hidden, 14 VCC (power) hidden
part A pins: 1 1~{C} (in), 2 1A (in), 3 1Y (hiz)
part B pins: 4 2~{C} (in), 5 2A (in), 6 2Y (hiz)
part C pins: 8 3Y (hiz), 9 3A (in), 10 3~{C} (in)
part D pins: 11 4Y (hiz), 12 4A (in), 13 4~{C} (in)

## HD74HCT125T
designator U?
Quad Bus Buffer Gates with 3-State Outputs; Published: 10-Feb-2010; DatasheetVersion: Rev.3.00, May-2009; PackageVersion: Sep-2005; PackageReference: PTSP0014JA-B; Publisher: Altium Limited; PackageDescription: 14-Pin Plastic Thin Small Outline Package 0.65 mm Pitch; Code_JEITA: P-TSSOP14-4.4x5-0.65; ComponentLink1Description: Manufacturer Link; ComponentLink1URL: http://sg.renesas.com/fmwk.jsp?cnt=hd74hc_root.jsp&fp=/products/standard_ic/general_purpose_logic/5v_standard_logic/hd74hc/; ComponentLink2Description: Datasheet; ComponentLink2URL: http://documentation.renesas.com/eng/products/logic/rej03d0657_hd74hct125ds.pdf; ComponentLink3Description: Packaging Specification; ComponentLink3URL: http://sg.renesas.com/media/products/common_info/package/pdf/ic/code/ptsp0014ja_b.pdf
footprint PTSP0014JA-B_N (TSOP, 14-Leads, Body 5x4.4mm, Pitch 0.65mm, IPC Medium Density)
footprint PTSP0014JA-B_L (TSOP, 14-Leads, Body 5x4.4mm, Pitch 0.65mm, IPC High Density)
footprint PTSP0014JA-B_M (TSOP, 14-Leads, Body 5x4.4mm, Pitch 0.65mm, IPC Low Density)
pins on every part: 7 GND (power) hidden, 14 VCC (power) hidden
part A pins: 1 1~{C} (in), 2 1A (in), 3 1Y (hiz)
part B pins: 4 2~{C} (in), 5 2A (in), 6 2Y (hiz)
part C pins: 8 3Y (hiz), 9 3A (in), 10 3~{C} (in)
part D pins: 11 4Y (hiz), 12 4A (in), 13 4~{C} (in)

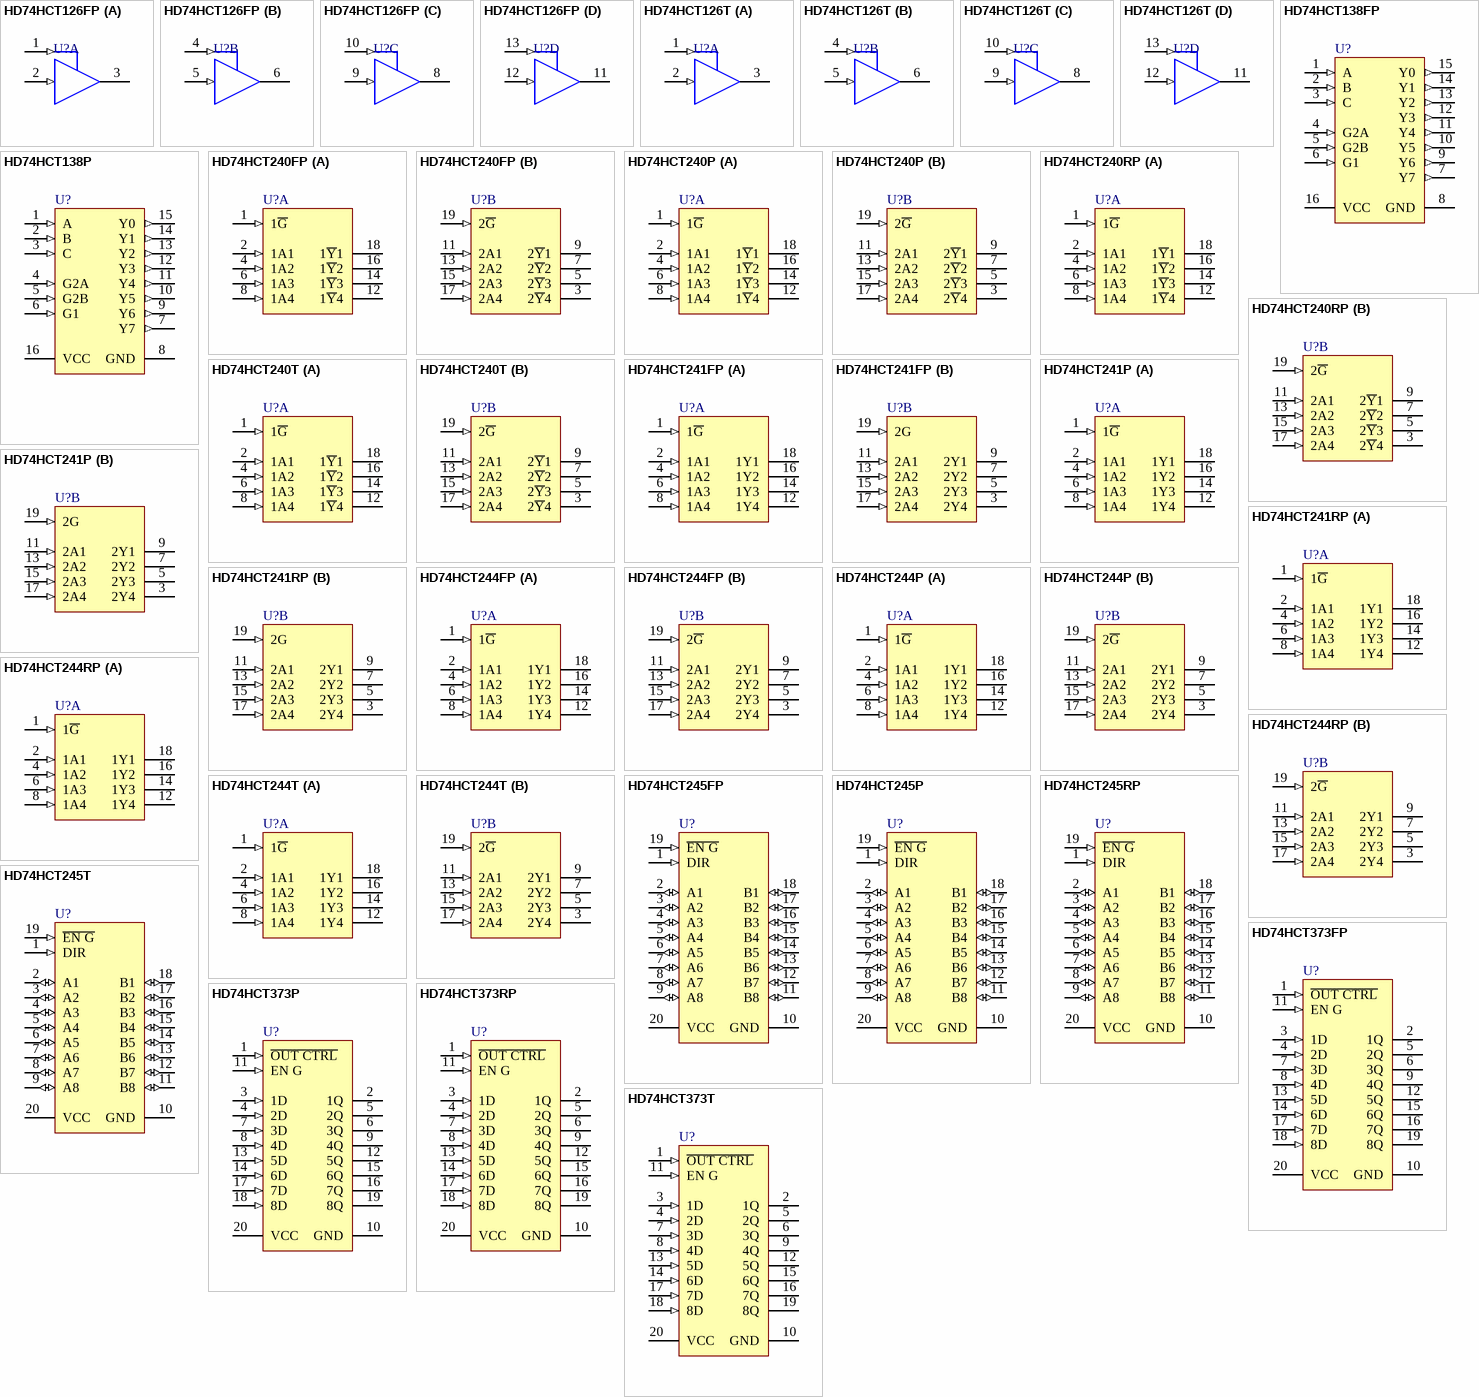
[diagram p26: symbols HD74HCT126FP to HD74HCT373T]

## HD74HCT126FP
designator U?
Quad Bus Buffer Gates with 3-State Outputs; Published: 10-Feb-2010; DatasheetVersion: Rev.3.00, May-2009; PackageVersion: Sep-2005; PackageReference: PRSP0014DF-B; Publisher: Altium Limited; PackageDescription: 14-Pin Plastic Small Outline Package, 10.06 x 5.5 mm Body, 1.27 mm Pitch; Code_JEITA: P-SOP14-5.5x10.06-1.27; ComponentLink1Description: Manufacturer Link; ComponentLink1URL: http://sg.renesas.com/fmwk.jsp?cnt=hd74hc_root.jsp&fp=/products/standard_ic/general_purpose_logic/5v_standard_logic/hd74hc/; ComponentLink2Description: Datasheet; ComponentLink2URL: http://documentation.renesas.com/eng/products/logic/rej03d0657_hd74hct125ds.pdf; ComponentLink3Description: Packaging Specification; ComponentLink3URL: http://sg.renesas.com/media/products/common_info/package/pdf/ic/code/prsp0014df_b.pdf
footprint PRSP0014DF-B_N (SOP, 14-Leads, Body 10.06x5.5mm, Pitch 1.27mm, IPC Medium Density)
footprint PRSP0014DF-B_L (SOP, 14-Leads, Body 10.06x5.5mm, Pitch 1.27mm, IPC High Density)
footprint PRSP0014DF-B_M (SOP, 14-Leads, Body 10.06x5.5mm, Pitch 1.27mm, IPC Low Density)
pins on every part: 7 GND (power) hidden, 14 VCC (power) hidden
part A pins: 1 1C (in), 2 1A (in), 3 1Y (hiz)
part B pins: 4 2C (in), 5 2A (in), 6 2Y (hiz)
part C pins: 8 3Y (hiz), 9 3A (in), 10 3C (in)
part D pins: 11 4Y (hiz), 12 4A (in), 13 4C (in)

## HD74HCT126T
designator U?
Quad Bus Buffer Gates with 3-State Outputs; Published: 10-Feb-2010; DatasheetVersion: Rev.3.00, May-2009; PackageVersion: Sep-2005; PackageReference: PTSP0014JA-B; Publisher: Altium Limited; PackageDescription: 14-Pin Plastic Thin Small Outline Package 0.65 mm Pitch; Code_JEITA: P-TSSOP14-4.4x5-0.65; ComponentLink1Description: Manufacturer Link; ComponentLink1URL: http://sg.renesas.com/fmwk.jsp?cnt=hd74hc_root.jsp&fp=/products/standard_ic/general_purpose_logic/5v_standard_logic/hd74hc/; ComponentLink2Description: Datasheet; ComponentLink2URL: http://documentation.renesas.com/eng/products/logic/rej03d0657_hd74hct125ds.pdf; ComponentLink3Description: Packaging Specification; ComponentLink3URL: http://sg.renesas.com/media/products/common_info/package/pdf/ic/code/ptsp0014ja_b.pdf
footprint PTSP0014JA-B_N (TSOP, 14-Leads, Body 5x4.4mm, Pitch 0.65mm, IPC Medium Density)
footprint PTSP0014JA-B_L (TSOP, 14-Leads, Body 5x4.4mm, Pitch 0.65mm, IPC High Density)
footprint PTSP0014JA-B_M (TSOP, 14-Leads, Body 5x4.4mm, Pitch 0.65mm, IPC Low Density)
pins on every part: 7 GND (power) hidden, 14 VCC (power) hidden
part A pins: 1 1C (in), 2 1A (in), 3 1Y (hiz)
part B pins: 4 2C (in), 5 2A (in), 6 2Y (hiz)
part C pins: 8 3Y (hiz), 9 3A (in), 10 3C (in)
part D pins: 11 4Y (hiz), 12 4A (in), 13 4C (in)

## HD74HCT138FP
designator U?
3-to-8 Line Decoder / Demultiplexer; Published: 10-Feb-2010; DatasheetVersion: Rev.2.00, Mar-2006; PackageVersion: Sep-2005; PackageReference: PRSP0016DH-B; Publisher: Altium Limited; PackageDescription: 16-Pin Plastic Small Outline Package 1.27 mm Pitch; Code_JEITA: P-SOP16-5.5x10.06-1.27; ComponentLink1Description: Manufacturer Link; ComponentLink1URL: http://sg.renesas.com/fmwk.jsp?cnt=hd74hc_root.jsp&fp=/products/standard_ic/general_purpose_logic/5v_standard_logic/hd74hc/; ComponentLink2Description: Datasheet; ComponentLink2URL: http://documentation.renesas.com/eng/products/logic/rej03d0659_hd74hct138ds.pdf; ComponentLink3Description: Packaging Specification; ComponentLink3URL: http://sg.renesas.com/media/products/common_info/package/pdf/ic/code/prsp0016dh_b.pdf
footprint PRSP0016DH-B_N (SOP, 16-Leads, Body 10.06x5.5mm, Pitch 1.27mm, IPC Medium Density)
footprint PRSP0016DH-B_L (SOP, 16-Leads, Body 10.06x5.5mm, Pitch 1.27mm, IPC High Density)
footprint PRSP0016DH-B_M (SOP, 16-Leads, Body 10.06x5.5mm, Pitch 1.27mm, IPC Low Density)
pins: 1 A (in), 2 B (in), 3 C (in), 4 G2A (in), 5 G2B (in), 6 G1 (in), 7 Y7 (out), 8 GND (power), 9 Y6 (out), 10 Y5 (out), 11 Y4 (out), 12 Y3 (out), 13 Y2 (out), 14 Y1 (out), 15 Y0 (out), 16 VCC (power)

## HD74HCT138P
designator U?
3-to-8 Line Decoder / Demultiplexer; Published: 10-Feb-2010; DatasheetVersion: Rev.2.00, Mar-2006; PackageVersion: Sep-2005; PackageReference: PRDP0016AE-B; Publisher: Altium Limited; PackageDescription: DIP, Plastic, 16-Pin, Row Spacing 7.62 mm, Pitch 2.54 mm; Code_JEITA: P-DIP16-6.3x19.2-2.54; ComponentLink1Description: Manufacturer Link; ComponentLink1URL: http://sg.renesas.com/fmwk.jsp?cnt=hd74hc_root.jsp&fp=/products/standard_ic/general_purpose_logic/5v_standard_logic/hd74hc/; ComponentLink2Description: Datasheet; ComponentLink2URL: http://documentation.renesas.com/eng/products/logic/rej03d0659_hd74hct138ds.pdf; ComponentLink3Description: Packaging Specification; ComponentLink3URL: http://sg.renesas.com/media/products/common_info/package/pdf/ic/code/prdp0016ae_b.pdf
footprint PRDP0016AE-B (DIP, 16-Leads, Row Spacing 7.62mm, Pitch 2.54mm, Body 19.2x6.3mm)
pins: 1 A (in), 2 B (in), 3 C (in), 4 G2A (in), 5 G2B (in), 6 G1 (in), 7 Y7 (out), 8 GND (power), 9 Y6 (out), 10 Y5 (out), 11 Y4 (out), 12 Y3 (out), 13 Y2 (out), 14 Y1 (out), 15 Y0 (out), 16 VCC (power)

## HD74HCT240FP
designator U?
Octal Buffers / Line Drivers / Line Receivers with Inverted 3-State Outputs; Published: 10-Feb-2010; DatasheetVersion: Rev.2.00, Mar-2006; PackageVersion: Sep-2005; PackageReference: PRSP0020DD-B; Publisher: Altium Limited; PackageDescription: 20-Pin Plastic Small Outline Package, 12.6 x 5.5 x 1.8 mm Body, 1.27 mm Pitch; Code_JEITA: P-SOP20-5.5x12.6-1.27; ComponentLink1Description: Manufacturer Link; ComponentLink1URL: http://sg.renesas.com/fmwk.jsp?cnt=hd74hc_root.jsp&fp=/products/standard_ic/general_purpose_logic/5v_standard_logic/hd74hc/; ComponentLink2Description: Datasheet; ComponentLink2URL: http://documentation.renesas.com/eng/products/logic/rej03d0662_hd74hct240ds.pdf; ComponentLink3Description: Packaging Specification; ComponentLink3URL: http://sg.renesas.com/media/products/common_info/package/pdf/ic/code/prsp0020dd_b.pdf
footprint PRSP0020DD-B_N (SOP, 20-Leads, Body 12.6x5.3mm, Pitch 1.27mm, IPC Medium Density)
footprint PRSP0020DD-B_L (SOP, 20-Leads, Body 12.6x5.3mm, Pitch 1.27mm, IPC High Density)
footprint PRSP0020DD-B_M (SOP, 20-Leads, Body 12.6x5.3mm, Pitch 1.27mm, IPC Low Density)
pins on every part: 10 GND (power) hidden, 20 VCC (power) hidden
part A pins: 1 1~{G} (in), 2 1A1 (in), 4 1A2 (in), 6 1A3 (in), 8 1A4 (in), 12 1~{Y}4 (hiz), 14 1~{Y}3 (hiz), 16 1~{Y}2 (hiz), 18 1~{Y}1 (hiz)
part B pins: 3 2~{Y}4 (hiz), 5 2~{Y}3 (hiz), 7 2~{Y}2 (hiz), 9 2~{Y}1 (hiz), 11 2A1 (in), 13 2A2 (in), 15 2A3 (in), 17 2A4 (in), 19 2~{G} (in)

## HD74HCT240P
designator U?
Octal Buffers / Line Drivers / Line Receivers with Inverted 3-State Outputs; Published: 10-Feb-2010; DatasheetVersion: Rev.2.00, Mar-2006; PackageVersion: Sep-2005; PackageReference: PRDP0020AC-B; Publisher: Altium Limited; PackageDescription: 20-Pin Plastic DIP, 24.5 x 6.3 mm Body, 7.62 mm Row Spacing, 2.54 mm Pitch; Code_JEITA: P-DIP20-6.3x24.5-2.54; ComponentLink1Description: Manufacturer Link; ComponentLink1URL: http://sg.renesas.com/fmwk.jsp?cnt=hd74hc_root.jsp&fp=/products/standard_ic/general_purpose_logic/5v_standard_logic/hd74hc/; ComponentLink2Description: Datasheet; ComponentLink2URL: http://documentation.renesas.com/eng/products/logic/rej03d0662_hd74hct240ds.pdf; ComponentLink3Description: Packaging Specification; ComponentLink3URL: http://sg.renesas.com/media/products/common_info/package/pdf/ic/code/prdp0020ac_b.pdf
footprint PRDP0020AC-B (DIP, 20-Leads, Row Spacing 7.62mm, Pitch 2.54mm, Body 24.5x6.3mm)
pins on every part: 10 GND (power) hidden, 20 VCC (power) hidden
part A pins: 1 1~{G} (in), 2 1A1 (in), 4 1A2 (in), 6 1A3 (in), 8 1A4 (in), 12 1~{Y}4 (hiz), 14 1~{Y}3 (hiz), 16 1~{Y}2 (hiz), 18 1~{Y}1 (hiz)
part B pins: 3 2~{Y}4 (hiz), 5 2~{Y}3 (hiz), 7 2~{Y}2 (hiz), 9 2~{Y}1 (hiz), 11 2A1 (in), 13 2A2 (in), 15 2A3 (in), 17 2A4 (in), 19 2~{G} (in)

## HD74HCT240RP
designator U?
Octal Buffers / Line Drivers / Line Receivers with Inverted 3-State Outputs; Published: 10-Feb-2010; DatasheetVersion: Rev.2.00, Mar-2006; PackageVersion: Sep-2005; PackageReference: PRSP0020DC-A; Publisher: Altium Limited; PackageDescription: 20-Pin Plastic Small Outline Integrated Circuit, 12.8 x 7.5 mm Body, 1.27 mm Pitch; Code_JEITA: P-SOP20-7.5x12.8-1.27; Code_IPC: SOIC127P1030-20; ComponentLink1Description: Manufacturer Link; ComponentLink1URL: http://sg.renesas.com/fmwk.jsp?cnt=hd74hc_root.jsp&fp=/products/standard_ic/general_purpose_logic/5v_standard_logic/hd74hc/; ComponentLink2Description: Datasheet; ComponentLink2URL: http://documentation.renesas.com/eng/products/logic/rej03d0662_hd74hct240ds.pdf; ComponentLink3Description: Packaging Specification; ComponentLink3URL: http://sg.renesas.com/media/products/common_info/package/pdf/ic/code/prsp0020dc_a.pdf
footprint PRSP0020DC-A_N (SOIC, 20-Leads, Body 12.8x7.5mm, Pitch 1.27mm, IPC Medium Density)
footprint PRSP0020DC-A_L (SOIC, 20-Leads, Body 12.8x7.5mm, Pitch 1.27mm, IPC High Density)
footprint PRSP0020DC-A_M (SOIC, 20-Leads, Body 12.8x7.5mm, Pitch 1.27mm, IPC Low Density)
pins on every part: 10 GND (power) hidden, 20 VCC (power) hidden
part A pins: 1 1~{G} (in), 2 1A1 (in), 4 1A2 (in), 6 1A3 (in), 8 1A4 (in), 12 1~{Y}4 (hiz), 14 1~{Y}3 (hiz), 16 1~{Y}2 (hiz), 18 1~{Y}1 (hiz)
part B pins: 3 2~{Y}4 (hiz), 5 2~{Y}3 (hiz), 7 2~{Y}2 (hiz), 9 2~{Y}1 (hiz), 11 2A1 (in), 13 2A2 (in), 15 2A3 (in), 17 2A4 (in), 19 2~{G} (in)

## HD74HCT240T
designator U?
Octal Buffers / Line Drivers / Line Receivers with Inverted 3-State Outputs; Published: 10-Feb-2010; DatasheetVersion: Rev.2.00, Mar-2006; PackageVersion: Sep-2005; PackageReference: PTSP0020JB-A; Publisher: Altium Limited; PackageDescription: 20-Pin Plastic Thin Small Outline Package, 6.5 x 4.4 mm Body, 0.65 mm Pitch; Code_JEITA: P-TSSOP20-4.4x6.5-0.65; ComponentLink1Description: Manufacturer Link; ComponentLink1URL: http://sg.renesas.com/fmwk.jsp?cnt=hd74hc_root.jsp&fp=/products/standard_ic/general_purpose_logic/5v_standard_logic/hd74hc/; ComponentLink2Description: Datasheet; ComponentLink2URL: http://documentation.renesas.com/eng/products/logic/rej03d0662_hd74hct240ds.pdf; ComponentLink3Description: Packaging Specification; ComponentLink3URL: http://sg.renesas.com/media/products/common_info/package/pdf/ic/code/ptsp0020jb_a.pdf
footprint PTSP0020JB-A_N (TSOP, 20-Leads, Body 6.5x4.4mm, Pitch 0.65mm, IPC Medium Density)
footprint PTSP0020JB-A_L (TSOP, 20-Leads, Body 6.5x4.4mm, Pitch 0.65mm, IPC High Density)
footprint PTSP0020JB-A_M (TSOP, 20-Leads, Body 6.5x4.4mm, Pitch 0.65mm, IPC Low Density)
pins on every part: 10 GND (power) hidden, 20 VCC (power) hidden
part A pins: 1 1~{G} (in), 2 1A1 (in), 4 1A2 (in), 6 1A3 (in), 8 1A4 (in), 12 1~{Y}4 (hiz), 14 1~{Y}3 (hiz), 16 1~{Y}2 (hiz), 18 1~{Y}1 (hiz)
part B pins: 3 2~{Y}4 (hiz), 5 2~{Y}3 (hiz), 7 2~{Y}2 (hiz), 9 2~{Y}1 (hiz), 11 2A1 (in), 13 2A2 (in), 15 2A3 (in), 17 2A4 (in), 19 2~{G} (in)

## HD74HCT241FP
designator U?
Octal Buffers / Line Drivers / Line Receivers with non-Inverted 3-State Outputs; Published: 10-Feb-2010; DatasheetVersion: Rev.2.00, Mar-2006; PackageVersion: Sep-2005; PackageReference: PRSP0020DD-B; Publisher: Altium Limited; PackageDescription: 20-Pin Plastic Small Outline Package, 12.6 x 5.5 x 1.8 mm Body, 1.27 mm Pitch; Code_JEITA: P-SOP20-5.5x12.6-1.27; ComponentLink1Description: Manufacturer Link; ComponentLink1URL: http://sg.renesas.com/fmwk.jsp?cnt=hd74hc_root.jsp&fp=/products/standard_ic/general_purpose_logic/5v_standard_logic/hd74hc/; ComponentLink2Description: Datasheet; ComponentLink2URL: http://documentation.renesas.com/eng/products/logic/rej03d0663_hd74hct241ds.pdf; ComponentLink3Description: Packaging Specification; ComponentLink3URL: http://sg.renesas.com/media/products/common_info/package/pdf/ic/code/prsp0020dd_b.pdf
footprint PRSP0020DD-B_N (SOP, 20-Leads, Body 12.6x5.3mm, Pitch 1.27mm, IPC Medium Density)
footprint PRSP0020DD-B_L (SOP, 20-Leads, Body 12.6x5.3mm, Pitch 1.27mm, IPC High Density)
footprint PRSP0020DD-B_M (SOP, 20-Leads, Body 12.6x5.3mm, Pitch 1.27mm, IPC Low Density)
pins on every part: 10 GND (power) hidden, 20 VCC (power) hidden
part A pins: 1 1~{G} (in), 2 1A1 (in), 4 1A2 (in), 6 1A3 (in), 8 1A4 (in), 12 1Y4 (hiz), 14 1Y3 (hiz), 16 1Y2 (hiz), 18 1Y1 (hiz)
part B pins: 3 2Y4 (hiz), 5 2Y3 (hiz), 7 2Y2 (hiz), 9 2Y1 (hiz), 11 2A1 (in), 13 2A2 (in), 15 2A3 (in), 17 2A4 (in), 19 2G (in)

## HD74HCT241P
designator U?
Octal Buffers / Line Drivers / Line Receivers with non-Inverted 3-State Outputs; Published: 10-Feb-2010; DatasheetVersion: Rev.2.00, Mar-2006; PackageVersion: Sep-2005; PackageReference: PRDP0020AC-B; Publisher: Altium Limited; PackageDescription: 20-Pin Plastic DIP, 24.5 x 6.3 mm Body, 7.62 mm Row Spacing, 2.54 mm Pitch; Code_JEITA: P-DIP20-6.3x24.5-2.54; ComponentLink1Description: Manufacturer Link; ComponentLink1URL: http://sg.renesas.com/fmwk.jsp?cnt=hd74hc_root.jsp&fp=/products/standard_ic/general_purpose_logic/5v_standard_logic/hd74hc/; ComponentLink2Description: Datasheet; ComponentLink2URL: http://documentation.renesas.com/eng/products/logic/rej03d0663_hd74hct241ds.pdf; ComponentLink3Description: Packaging Specification; ComponentLink3URL: http://sg.renesas.com/media/products/common_info/package/pdf/ic/code/prdp0020ac_b.pdf
footprint PRDP0020AC-B (DIP, 20-Leads, Row Spacing 7.62mm, Pitch 2.54mm, Body 24.5x6.3mm)
pins on every part: 10 GND (power) hidden, 20 VCC (power) hidden
part A pins: 1 1~{G} (in), 2 1A1 (in), 4 1A2 (in), 6 1A3 (in), 8 1A4 (in), 12 1Y4 (hiz), 14 1Y3 (hiz), 16 1Y2 (hiz), 18 1Y1 (hiz)
part B pins: 3 2Y4 (hiz), 5 2Y3 (hiz), 7 2Y2 (hiz), 9 2Y1 (hiz), 11 2A1 (in), 13 2A2 (in), 15 2A3 (in), 17 2A4 (in), 19 2G (in)

## HD74HCT241RP
designator U?
Octal Buffers / Line Drivers / Line Receivers with non-Inverted 3-State Outputs; Published: 10-Feb-2010; DatasheetVersion: Rev.2.00, Mar-2006; PackageVersion: Sep-2005; PackageReference: PRSP0020DC-A; Publisher: Altium Limited; PackageDescription: 20-Pin Plastic Small Outline Integrated Circuit, 12.8 x 7.5 mm Body, 1.27 mm Pitch; Code_JEITA: P-SOP20-7.5x12.8-1.27; Code_IPC: SOIC127P1030-20; ComponentLink1Description: Manufacturer Link; ComponentLink1URL: http://sg.renesas.com/fmwk.jsp?cnt=hd74hc_root.jsp&fp=/products/standard_ic/general_purpose_logic/5v_standard_logic/hd74hc/; ComponentLink2Description: Datasheet; ComponentLink2URL: http://documentation.renesas.com/eng/products/logic/rej03d0663_hd74hct241ds.pdf; ComponentLink3Description: Packaging Specification; ComponentLink3URL: http://sg.renesas.com/media/products/common_info/package/pdf/ic/code/prsp0020dc_a.pdf
footprint PRSP0020DC-A_N (SOIC, 20-Leads, Body 12.8x7.5mm, Pitch 1.27mm, IPC Medium Density)
footprint PRSP0020DC-A_L (SOIC, 20-Leads, Body 12.8x7.5mm, Pitch 1.27mm, IPC High Density)
footprint PRSP0020DC-A_M (SOIC, 20-Leads, Body 12.8x7.5mm, Pitch 1.27mm, IPC Low Density)
pins on every part: 10 GND (power) hidden, 20 VCC (power) hidden
part A pins: 1 1~{G} (in), 2 1A1 (in), 4 1A2 (in), 6 1A3 (in), 8 1A4 (in), 12 1Y4 (hiz), 14 1Y3 (hiz), 16 1Y2 (hiz), 18 1Y1 (hiz)
part B pins: 3 2Y4 (hiz), 5 2Y3 (hiz), 7 2Y2 (hiz), 9 2Y1 (hiz), 11 2A1 (in), 13 2A2 (in), 15 2A3 (in), 17 2A4 (in), 19 2G (in)

## HD74HCT244FP
designator U?
Octal Buffers / Line Drivers / Line Receivers with Non-Inverted 3-State Outputs; Published: 10-Feb-2010; DatasheetVersion: Rev.2.00, Mar-2006; PackageVersion: Sep-2005; PackageReference: PRSP0020DD-B; Publisher: Altium Limited; PackageDescription: 20-Pin Plastic Small Outline Package, 12.6 x 5.5 x 1.8 mm Body, 1.27 mm Pitch; Code_JEITA: P-SOP20-5.5x12.6-1.27; ComponentLink1Description: Manufacturer Link; ComponentLink1URL: http://sg.renesas.com/fmwk.jsp?cnt=hd74hc_root.jsp&fp=/products/standard_ic/general_purpose_logic/5v_standard_logic/hd74hc/; ComponentLink2Description: Datasheet; ComponentLink2URL: http://documentation.renesas.com/eng/products/logic/rej03d0664_hd74hct244ds.pdf; ComponentLink3Description: Packaging Specification; ComponentLink3URL: http://sg.renesas.com/media/products/common_info/package/pdf/ic/code/prsp0020dd_b.pdf
footprint PRSP0020DD-B_N (SOP, 20-Leads, Body 12.6x5.3mm, Pitch 1.27mm, IPC Medium Density)
footprint PRSP0020DD-B_L (SOP, 20-Leads, Body 12.6x5.3mm, Pitch 1.27mm, IPC High Density)
footprint PRSP0020DD-B_M (SOP, 20-Leads, Body 12.6x5.3mm, Pitch 1.27mm, IPC Low Density)
pins on every part: 10 GND (power) hidden, 20 VCC (power) hidden
part A pins: 1 1~{G} (in), 2 1A1 (in), 4 1A2 (in), 6 1A3 (in), 8 1A4 (in), 12 1Y4 (hiz), 14 1Y3 (hiz), 16 1Y2 (hiz), 18 1Y1 (hiz)
part B pins: 3 2Y4 (hiz), 5 2Y3 (hiz), 7 2Y2 (hiz), 9 2Y1 (hiz), 11 2A1 (in), 13 2A2 (in), 15 2A3 (in), 17 2A4 (in), 19 2~{G} (in)

## HD74HCT244P
designator U?
Octal Buffers / Line Drivers / Line Receivers with Non-Inverted 3-State Outputs; Published: 10-Feb-2010; DatasheetVersion: Rev.2.00, Mar-2006; PackageVersion: Sep-2005; PackageReference: PRDP0020AC-B; Publisher: Altium Limited; PackageDescription: 20-Pin Plastic DIP, 24.5 x 6.3 mm Body, 7.62 mm Row Spacing, 2.54 mm Pitch; Code_JEITA: P-DIP20-6.3x24.5-2.54; ComponentLink1Description: Manufacturer Link; ComponentLink1URL: http://sg.renesas.com/fmwk.jsp?cnt=hd74hc_root.jsp&fp=/products/standard_ic/general_purpose_logic/5v_standard_logic/hd74hc/; ComponentLink2Description: Datasheet; ComponentLink2URL: http://documentation.renesas.com/eng/products/logic/rej03d0664_hd74hct244ds.pdf; ComponentLink3Description: Packaging Specification; ComponentLink3URL: http://sg.renesas.com/media/products/common_info/package/pdf/ic/code/prdp0020ac_b.pdf
footprint PRDP0020AC-B (DIP, 20-Leads, Row Spacing 7.62mm, Pitch 2.54mm, Body 24.5x6.3mm)
pins on every part: 10 GND (power) hidden, 20 VCC (power) hidden
part A pins: 1 1~{G} (in), 2 1A1 (in), 4 1A2 (in), 6 1A3 (in), 8 1A4 (in), 12 1Y4 (hiz), 14 1Y3 (hiz), 16 1Y2 (hiz), 18 1Y1 (hiz)
part B pins: 3 2Y4 (hiz), 5 2Y3 (hiz), 7 2Y2 (hiz), 9 2Y1 (hiz), 11 2A1 (in), 13 2A2 (in), 15 2A3 (in), 17 2A4 (in), 19 2~{G} (in)